# Altium schematic symbol library SparkFun-Resistors.SCHLIB: 155 symbols
Pins are listed as number, name and electrical type; pins without a type are passive.

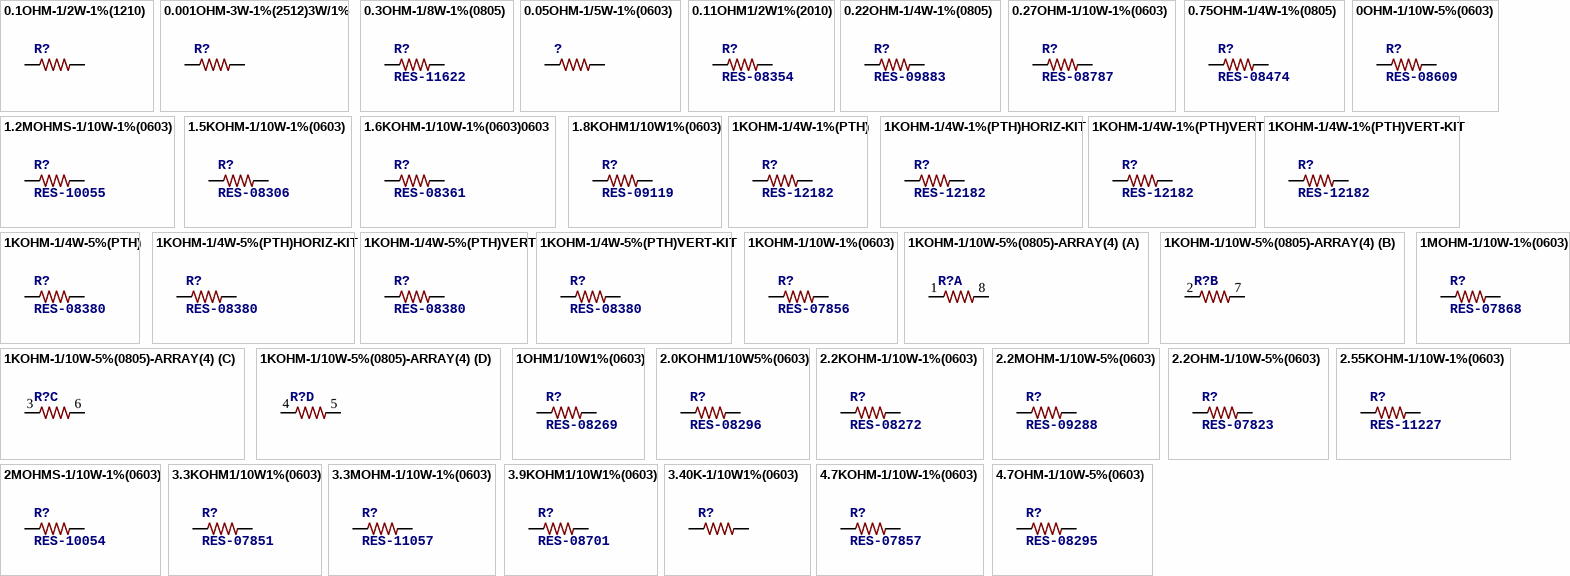
[diagram p0: symbols 0.1OHM-1/2W-1%(1210) to 4.7OHM-1/10W-5%(0603)]

## 0.1OHM-1/2W-1%(1210)
designator R?
PROD_ID: RES-12374
footprint 1210
pins: 1, 2

## 0.001OHM-3W-1%(2512)3W/1%
designator R?
PROD_ID: RES-12449
footprint 2512
pins: 1, 2

## 0.3OHM-1/8W-1%(0805)
designator R?, comment RES-11622
PROD_ID: RES-11622
footprint 0805
pins: 1, 2

## 0.05OHM-1/5W-1%(0603)
designator ?
PROD_ID: RES-12535
footprint 0603
pins: 1, 2

## 0.11OHM1/2W1%(2010)
designator R?, comment RES-08354
PROD_ID: RES-08354
footprint R2010
pins: 1, 2

## 0.22OHM-1/4W-1%(0805)
designator R?, comment RES-09883
PROD_ID: RES-09883
footprint 0805
pins: 1, 2

## 0.27OHM-1/10W-1%(0603)
designator R?, comment RES-08787
PROD_ID: RES-08787
footprint 0603-RES
pins: 1, 2

## 0.75OHM-1/4W-1%(0805)
designator R?, comment RES-08474
PROD_ID: RES-08474
footprint 0805
pins: 1, 2

## 0OHM-1/10W-5%(0603)
designator R?, comment RES-08609
PROD_ID: RES-08609
footprint 0603
pins: 1, 2

## 1.2MOHMS-1/10W-1%(0603)
designator R?, comment RES-10055
PROD_ID: RES-10055
footprint 0603-RES
pins: 1, 2

## 1.5KOHM-1/10W-1%(0603)
designator R?, comment RES-08306
PROD_ID: RES-08306
footprint 0603
pins: 1, 2

## 1.6KOHM-1/10W-1%(0603)0603
designator R?, comment RES-08361
PROD_ID: RES-08361
footprint 0603-RES
pins: 1, 2

## 1.8KOHM1/10W1%(0603)
designator R?, comment RES-09119
PROD_ID: RES-09119
footprint 0603-RES
pins: 1, 2

## 1KOHM-1/4W-1%(PTH)
designator R?, comment RES-12182
PROD_ID: RES-12182
footprint AXIAL-0.3
pins: P$1 1, P$2 2

## 1KOHM-1/4W-1%(PTH)HORIZ-KIT
designator R?, comment RES-12182
PROD_ID: RES-12182
footprint AXIAL-0.3EZ
pins: P$1 1, P$2 2

## 1KOHM-1/4W-1%(PTH)VERT
designator R?, comment RES-12182
PROD_ID: RES-12182
footprint AXIAL-0.1
pins: P$1 1, P$2 2

## 1KOHM-1/4W-1%(PTH)VERT-KIT
designator R?, comment RES-12182
PROD_ID: RES-12182
footprint AXIAL-0.1EZ
pins: P$1 1, P$2 2

## 1KOHM-1/4W-5%(PTH)
designator R?, comment RES-08380
PROD_ID: RES-08380
footprint AXIAL-0.3
pins: P$1 1, P$2 2

## 1KOHM-1/4W-5%(PTH)HORIZ-KIT
designator R?, comment RES-08380
PROD_ID: RES-08380
footprint AXIAL-0.3EZ
pins: P$1 1, P$2 2

## 1KOHM-1/4W-5%(PTH)VERT
designator R?, comment RES-08380
PROD_ID: RES-08380
footprint AXIAL-0.1
pins: P$1 1, P$2 2

## 1KOHM-1/4W-5%(PTH)VERT-KIT
designator R?, comment RES-08380
PROD_ID: RES-08380
footprint AXIAL-0.1EZ
pins: P$1 1, P$2 2

## 1KOHM-1/10W-1%(0603)
designator R?, comment RES-07856
PROD_ID: RES-07856
footprint 0603-RES
pins: 1, 2

## 1KOHM-1/10W-5%(0805)-ARRAY(4)
designator R?
PROD_ID: RES-13020
footprint 0805-ARV
part A pins: 1, 8 2
part B pins: 2 1, 7 2
part C pins: 3 1, 6 2
part D pins: 4 1, 5 2

## 1MOHM-1/10W-1%(0603)
designator R?, comment RES-07868
PROD_ID: RES-07868
footprint 0603-RES
pins: 1, 2

## 1OHM1/10W1%(0603)
designator R?, comment RES-08269
PROD_ID: RES-08269
footprint 0603-RES
pins: 1, 2

## 2.0KOHM1/10W5%(0603)
designator R?, comment RES-08296
PROD_ID: RES-08296
footprint 0603-RES
pins: 1, 2

## 2.2KOHM-1/10W-1%(0603)
designator R?, comment RES-08272
PROD_ID: RES-08272
footprint 0603-RES
pins: 1, 2

## 2.2MOHM-1/10W-5%(0603)
designator R?, comment RES-09288
PROD_ID: RES-09288
footprint 0603-RES
pins: 1, 2

## 2.2OHM-1/10W-5%(0603)
designator R?, comment RES-07823
PROD_ID: RES-07823
footprint 0603-RES
pins: 1, 2

## 2.55KOHM-1/10W-1%(0603)
designator R?, comment RES-11227
PROD_ID: RES-11227
footprint 0603-RES
pins: 1, 2

## 2MOHMS-1/10W-1%(0603)
designator R?, comment RES-10054
PROD_ID: RES-10054
footprint 0603-RES
pins: 1, 2

## 3.3KOHM1/10W1%(0603)
designator R?, comment RES-07851
PROD_ID: RES-07851
footprint 0603-RES
pins: 1, 2

## 3.3MOHM-1/10W-1%(0603)
designator R?, comment RES-11057
PROD_ID: RES-11057
footprint 0603-RES
pins: 1, 2

## 3.9KOHM1/10W1%(0603)
designator R?, comment RES-08701
PROD_ID: RES-08701
footprint 0603
pins: 1, 2

## 3.40K-1/10W1%(0603)
designator R?
PROD_ID: RES-12383
footprint 0603-RES
pins: 1, 2

## 4.7KOHM-1/10W-1%(0603)
designator R?, comment RES-07857
PROD_ID: RES-07857
footprint 0603-RES
pins: 1, 2

## 4.7OHM-1/10W-5%(0603)
designator R?, comment RES-08295
PROD_ID: RES-08295
footprint 0603-RES
pins: 1, 2

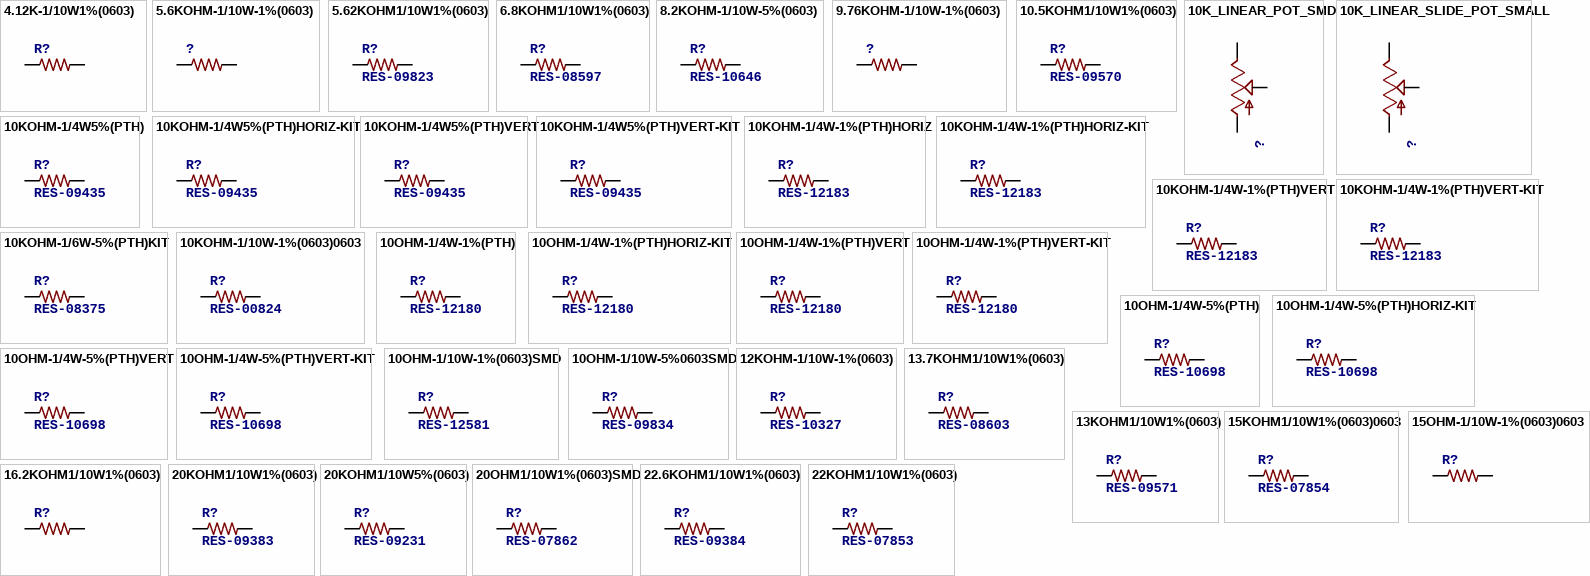
[diagram p1: symbols 4.12K-1/10W1%(0603) to 22KOHM1/10W1%(0603)]

## 4.12K-1/10W1%(0603)
designator R?
PROD_ID: RES-12384
footprint 0603-RES
pins: 1, 2

## 5.6KOHM-1/10W-1%(0603)
designator ?
PROD_ID: RES-12378
footprint 0603
pins: 1, 2

## 5.62KOHM1/10W1%(0603)
designator R?, comment RES-09823
PROD_ID: RES-09823
footprint 0603-RES
pins: 1, 2

## 6.8KOHM1/10W1%(0603)
designator R?, comment RES-08597
PROD_ID: RES-08597
footprint 0603-RES
pins: 1, 2

## 8.2KOHM-1/10W-5%(0603)
designator R?, comment RES-10646
PROD_ID: RES-10646
footprint 0603-RES
pins: 1, 2

## 9.76KOHM-1/10W-1%(0603)
designator ?
PROD_ID: RES-12534
footprint 0603
pins: 1, 2

## 10.5KOHM1/10W1%(0603)
designator R?, comment RES-09570
PROD_ID: RES-09570
footprint 0603
pins: 1, 2

## 10K_LINEAR_POT_SMD
designator ?
PROD_ID: RES-12428
footprint TC33X
pins: 1 A, 2 S, 3 E

## 10K_LINEAR_SLIDE_POT_SMALL
designator ?
PROD_ID: RES-11924
footprint C2031N-1A2-B10K-GP
pins: 1 S, 2 A, 3 E

## 10KOHM-1/4W5%(PTH)
designator R?, comment RES-09435
PROD_ID: RES-9435
footprint AXIAL-0.3
pins: P$1 1, P$2 2

## 10KOHM-1/4W5%(PTH)HORIZ-KIT
designator R?, comment RES-09435
PROD_ID: RES-9435
footprint AXIAL-0.3EZ
pins: P$1 1, P$2 2

## 10KOHM-1/4W5%(PTH)VERT
designator R?, comment RES-09435
PROD_ID: RES-9435
footprint AXIAL-0.1
pins: P$1 1, P$2 2

## 10KOHM-1/4W5%(PTH)VERT-KIT
designator R?, comment RES-09435
PROD_ID: RES-9435
footprint AXIAL-0.1EZ
pins: P$1 1, P$2 2

## 10KOHM-1/4W-1%(PTH)HORIZ
designator R?, comment RES-12183
PROD_ID: RES-12183
footprint AXIAL-0.3
pins: P$1 1, P$2 2

## 10KOHM-1/4W-1%(PTH)HORIZ-KIT
designator R?, comment RES-12183
PROD_ID: RES-12183
footprint AXIAL-0.3EZ
pins: P$1 1, P$2 2

## 10KOHM-1/4W-1%(PTH)VERT
designator R?, comment RES-12183
PROD_ID: RES-12183
footprint AXIAL-0.1
pins: P$1 1, P$2 2

## 10KOHM-1/4W-1%(PTH)VERT-KIT
designator R?, comment RES-12183
PROD_ID: RES-12183
footprint AXIAL-0.1EZ
pins: P$1 1, P$2 2

## 10KOHM-1/6W-5%(PTH)KIT
designator R?, comment RES-08375
PROD_ID: RES-08375
footprint AXIAL-0.3-KIT
pins: P$1 1, P$2 2

## 10KOHM-1/10W-1%(0603)0603
designator R?, comment RES-00824
PROD_ID: RES-00824
footprint 0603-RES
pins: 1, 2

## 10OHM-1/4W-1%(PTH)
designator R?, comment RES-12180
PROD_ID: RES-12180
footprint AXIAL-0.3
pins: P$1 1, P$2 2

## 10OHM-1/4W-1%(PTH)HORIZ-KIT
designator R?, comment RES-12180
PROD_ID: RES-12180
footprint AXIAL-0.3EZ
pins: P$1 1, P$2 2

## 10OHM-1/4W-1%(PTH)VERT
designator R?, comment RES-12180
PROD_ID: RES-12180
footprint AXIAL-0.1
pins: P$1 1, P$2 2

## 10OHM-1/4W-1%(PTH)VERT-KIT
designator R?, comment RES-12180
PROD_ID: RES-12180
footprint AXIAL-0.1EZ
pins: P$1 1, P$2 2

## 10OHM-1/4W-5%(PTH)
designator R?, comment RES-10698
PROD_ID: RES-10698
footprint AXIAL-0.3
pins: P$1 1, P$2 2

## 10OHM-1/4W-5%(PTH)HORIZ-KIT
designator R?, comment RES-10698
PROD_ID: RES-10698
footprint AXIAL-0.3EZ
pins: P$1 1, P$2 2

## 10OHM-1/4W-5%(PTH)VERT
designator R?, comment RES-10698
PROD_ID: RES-10698
footprint AXIAL-0.1
pins: P$1 1, P$2 2

## 10OHM-1/4W-5%(PTH)VERT-KIT
designator R?, comment RES-10698
PROD_ID: RES-10698
footprint AXIAL-0.1EZ
pins: P$1 1, P$2 2

## 10OHM-1/10W-1%(0603)SMD
designator R?, comment RES-12581
PROD_ID: RES-12581
footprint 0603-RES
pins: 1, 2

## 10OHM-1/10W-5%0603SMD
designator R?, comment RES-09834
PROD_ID: RES-09834
footprint 0603-RES
pins: 1, 2

## 12KOHM-1/10W-1%(0603)
designator R?, comment RES-10327
PROD_ID: RES-10327
footprint 0603-RES
pins: 1, 2

## 13.7KOHM1/10W1%(0603)
designator R?, comment RES-08603
PROD_ID: RES-08603
footprint 0603-RES
pins: 1, 2

## 13KOHM1/10W1%(0603)
designator R?, comment RES-09571
PROD_ID: RES-09571
footprint 0603
pins: 1, 2

## 15KOHM1/10W1%(0603)0603
designator R?, comment RES-07854
PROD_ID: RES-07854
footprint 0603-RES
pins: 1, 2

## 15OHM-1/10W-1%(0603)0603
designator R?
PROD_ID: RES-12570
footprint 0603-RES
pins: 1, 2

## 16.2KOHM1/10W1%(0603)
designator R?
PROD_ID: RES-12187
footprint 0603-RES
pins: 1, 2

## 20KOHM1/10W1%(0603)
designator R?, comment RES-09383
PROD_ID: RES-09383
footprint 0603-RES
pins: 1, 2

## 20KOHM1/10W5%(0603)
designator R?, comment RES-09231
PROD_ID: RES-09231
footprint 0603-RES
pins: 1, 2

## 20OHM1/10W1%(0603)SMD
designator R?, comment RES-07862
PROD_ID: RES-07862
footprint 0603-RES
pins: 1, 2

## 22.6KOHM1/10W1%(0603)
designator R?, comment RES-09384
PROD_ID: RES-09384
footprint 0603-RES
pins: 1, 2

## 22KOHM1/10W1%(0603)
designator R?, comment RES-07853
PROD_ID: RES-07853
footprint 0603-RES
pins: 1, 2

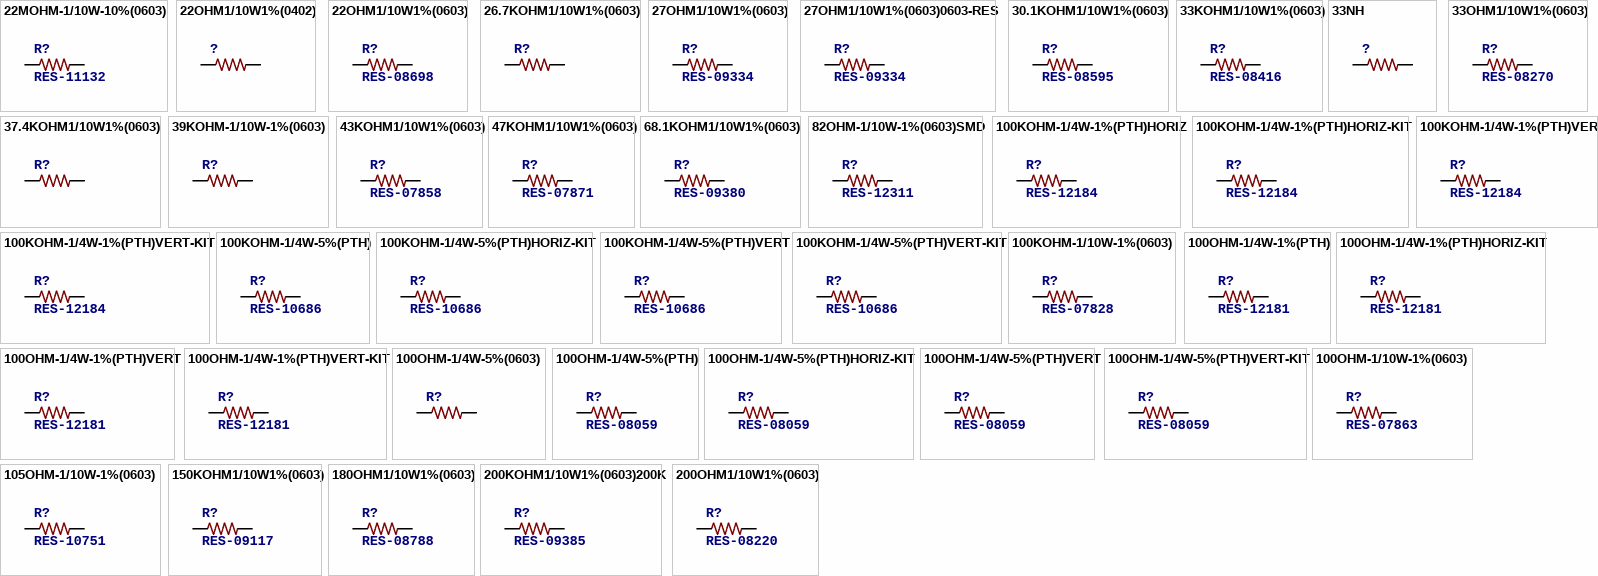
[diagram p2: symbols 22MOHM-1/10W-10%(0603) to 200OHM1/10W1%(0603)]

## 22MOHM-1/10W-10%(0603)
designator R?, comment RES-11132
PROD_ID: RES-11132
footprint 0603-RES
pins: 1, 2

## 22OHM1/10W1%(0402)
designator ?
PROD_ID: RES-12427
footprint 0402-RES
pins: 1, 2

## 22OHM1/10W1%(0603)
designator R?, comment RES-08698
PROD_ID: RES-08698
footprint 0603-RES
pins: 1, 2

## 26.7KOHM1/10W1%(0603)
designator R?
PROD_ID: RES-12186
footprint 0603-RES
pins: 1, 2

## 27OHM1/10W1%(0603)
designator R?, comment RES-09334
PROD_ID: RES-09334
footprint 0603
pins: 1, 2

## 27OHM1/10W1%(0603)0603-RES
designator R?, comment RES-09334
PROD_ID: RES-09334
footprint 0603-RES
pins: 1, 2

## 30.1KOHM1/10W1%(0603)
designator R?, comment RES-08595
PROD_ID: RES-08595
footprint 0603-RES
pins: 1, 2

## 33KOHM1/10W1%(0603)
designator R?, comment RES-08416
PROD_ID: RES-08416
footprint 0603-RES
pins: 1, 2

## 33NH
designator ?
PROD_ID: NDUC-07874
footprint 0603-RES
pins: 1, 2

## 33OHM1/10W1%(0603)
designator R?, comment RES-08270
PROD_ID: RES-08270
footprint 0603-RES
pins: 1, 2

## 37.4KOHM1/10W1%(0603)
designator R?
PROD_ID: RES-12188
footprint 0603-RES
pins: 1, 2

## 39KOHM-1/10W-1%(0603)
designator R?
PROD_ID: RES-12377
footprint 0603
pins: 1, 2

## 43KOHM1/10W1%(0603)
designator R?, comment RES-07858
PROD_ID: RES-07858
footprint 0603-RES
pins: 1, 2

## 47KOHM1/10W1%(0603)
designator R?, comment RES-07871
PROD_ID: RES-07871
footprint 0603-RES
pins: 1, 2

## 68.1KOHM1/10W1%(0603)
designator R?, comment RES-09380
PROD_ID: RES-09380
footprint 0603-RES
pins: 1, 2

## 82OHM-1/10W-1%(0603)SMD
designator R?, comment RES-12311
PROD_ID: RES-12311
footprint 0603-RES
pins: 1, 2

## 100KOHM-1/4W-1%(PTH)HORIZ
designator R?, comment RES-12184
PROD_ID: RES-12184
footprint AXIAL-0.3
pins: P$1 1, P$2 2

## 100KOHM-1/4W-1%(PTH)HORIZ-KIT
designator R?, comment RES-12184
PROD_ID: RES-12184
footprint AXIAL-0.3EZ
pins: P$1 1, P$2 2

## 100KOHM-1/4W-1%(PTH)VERT
designator R?, comment RES-12184
PROD_ID: RES-12184
footprint AXIAL-0.1
pins: P$1 1, P$2 2

## 100KOHM-1/4W-1%(PTH)VERT-KIT
designator R?, comment RES-12184
PROD_ID: RES-12184
footprint AXIAL-0.1EZ
pins: P$1 1, P$2 2

## 100KOHM-1/4W-5%(PTH)
designator R?, comment RES-10686
PROD_ID: RES-10686
footprint AXIAL-0.3
pins: P$1 1, P$2 2

## 100KOHM-1/4W-5%(PTH)HORIZ-KIT
designator R?, comment RES-10686
PROD_ID: RES-10686
footprint AXIAL-0.3EZ
pins: P$1 1, P$2 2

## 100KOHM-1/4W-5%(PTH)VERT
designator R?, comment RES-10686
PROD_ID: RES-10686
footprint AXIAL-0.1
pins: P$1 1, P$2 2

## 100KOHM-1/4W-5%(PTH)VERT-KIT
designator R?, comment RES-10686
PROD_ID: RES-10686
footprint AXIAL-0.1EZ
pins: P$1 1, P$2 2

## 100KOHM-1/10W-1%(0603)
designator R?, comment RES-07828
PROD_ID: RES-07828
footprint 0603-RES
pins: 1, 2

## 100OHM-1/4W-1%(PTH)
designator R?, comment RES-12181
PROD_ID: RES-12181
footprint AXIAL-0.3
pins: P$1 1, P$2 2

## 100OHM-1/4W-1%(PTH)HORIZ-KIT
designator R?, comment RES-12181
PROD_ID: RES-12181
footprint AXIAL-0.3EZ
pins: P$1 1, P$2 2

## 100OHM-1/4W-1%(PTH)VERT
designator R?, comment RES-12181
PROD_ID: RES-12181
footprint AXIAL-0.1
pins: P$1 1, P$2 2

## 100OHM-1/4W-1%(PTH)VERT-KIT
designator R?, comment RES-12181
PROD_ID: RES-12181
footprint AXIAL-0.1EZ
pins: P$1 1, P$2 2

## 100OHM-1/4W-5%(0603)
designator R?
PROD_ID: RES-12438
footprint 0603-RES
pins: 1, 2

## 100OHM-1/4W-5%(PTH)
designator R?, comment RES-08059
PROD_ID: RES-08059
footprint AXIAL-0.3
pins: P$1 1, P$2 2

## 100OHM-1/4W-5%(PTH)HORIZ-KIT
designator R?, comment RES-08059
PROD_ID: RES-08059
footprint AXIAL-0.3EZ
pins: P$1 1, P$2 2

## 100OHM-1/4W-5%(PTH)VERT
designator R?, comment RES-08059
PROD_ID: RES-08059
footprint AXIAL-0.1
pins: P$1 1, P$2 2

## 100OHM-1/4W-5%(PTH)VERT-KIT
designator R?, comment RES-08059
PROD_ID: RES-08059
footprint AXIAL-0.1EZ
pins: P$1 1, P$2 2

## 100OHM-1/10W-1%(0603)
designator R?, comment RES-07863
PROD_ID: RES-07863
footprint 0603-RES
pins: 1, 2

## 105OHM-1/10W-1%(0603)
designator R?, comment RES-10751
PROD_ID: RES-10751
footprint 0603-RES
pins: 1, 2

## 150KOHM1/10W1%(0603)
designator R?, comment RES-09117
PROD_ID: RES-09117
footprint 0603-RES
pins: 1, 2

## 180OHM1/10W1%(0603)
designator R?, comment RES-08788
PROD_ID: RES-08788
footprint 0603-RES
pins: 1, 2

## 200KOHM1/10W1%(0603)200K
designator R?, comment RES-09385
PROD_ID: RES-09385
footprint 0603-RES
pins: 1, 2

## 200OHM1/10W1%(0603)
designator R?, comment RES-08220
PROD_ID: RES-08220
footprint 0603-RES
pins: 1, 2

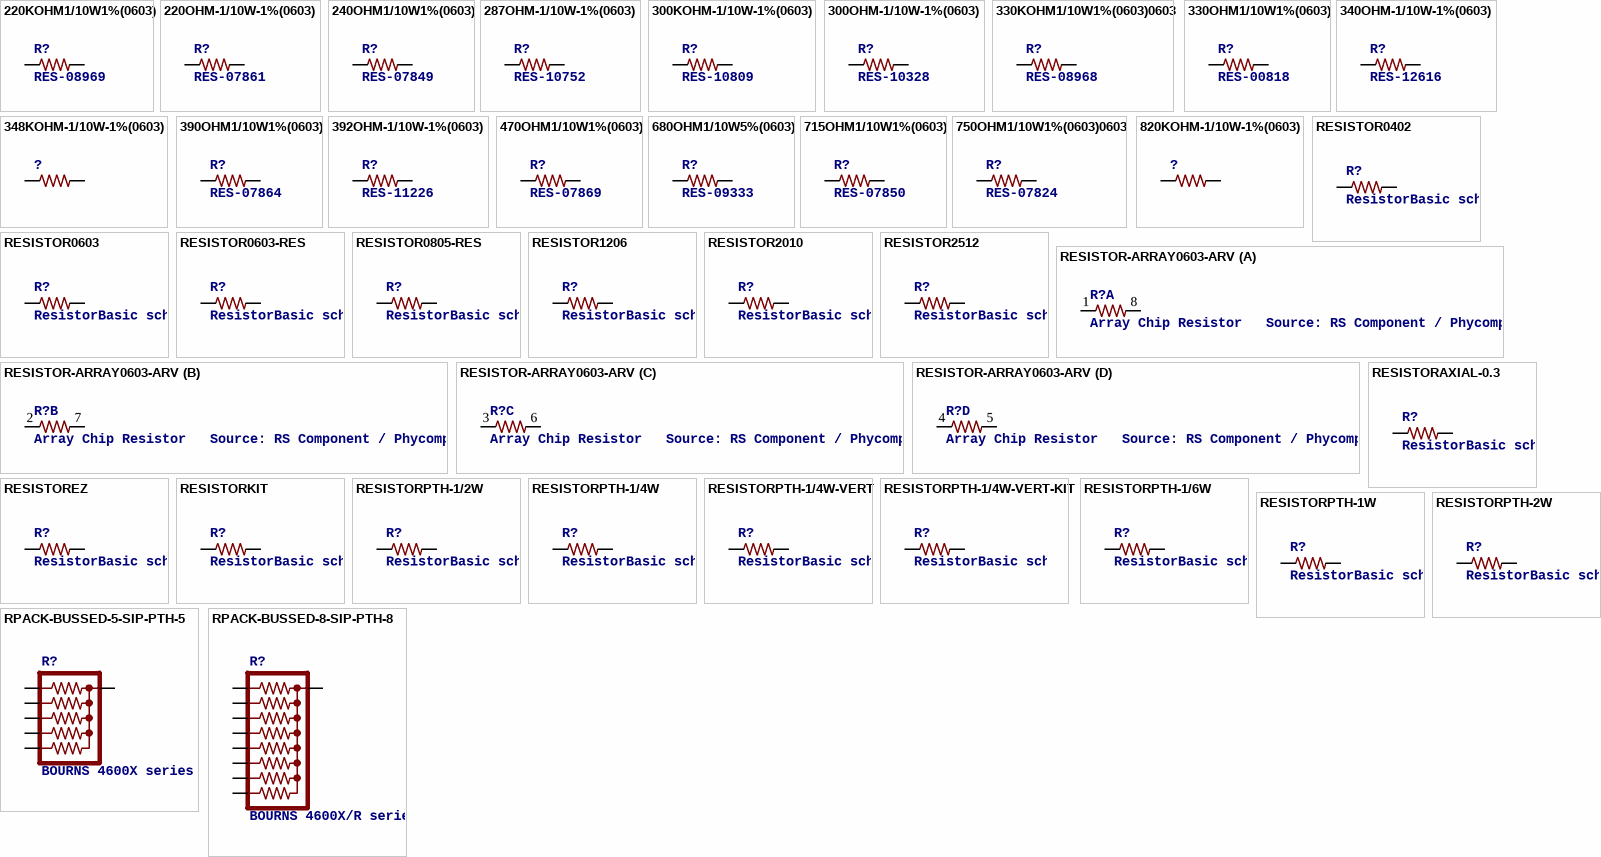
[diagram p3: symbols 220KOHM1/10W1%(0603) to RPACK-BUSSED-8-SIP-PTH-8]

## 220KOHM1/10W1%(0603)
designator R?, comment RES-08969
PROD_ID: RES-08969
footprint 0603-RES
pins: 1, 2

## 220OHM-1/10W-1%(0603)
designator R?, comment RES-07861
PROD_ID: RES-07861
footprint 0603-RES
pins: 1, 2

## 240OHM1/10W1%(0603)
designator R?, comment RES-07849
PROD_ID: RES-07849
footprint 0603-RES
pins: 1, 2

## 287OHM-1/10W-1%(0603)
designator R?, comment RES-10752
PROD_ID: RES-10752
footprint 0603-RES
pins: 1, 2

## 300KOHM-1/10W-1%(0603)
designator R?, comment RES-10809
PROD_ID: RES-10809
footprint 0603-RES
pins: 1, 2

## 300OHM-1/10W-1%(0603)
designator R?, comment RES-10328
PROD_ID: RES_10328
footprint 0603-RES
pins: 1, 2

## 330KOHM1/10W1%(0603)0603
designator R?, comment RES-08968
PROD_ID: RES-08968
footprint 0603-RES
pins: 1, 2

## 330OHM1/10W1%(0603)
designator R?, comment RES-00818
PROD_ID: RES-00818
footprint 0603-RES
pins: 1, 2

## 340OHM-1/10W-1%(0603)
designator R?, comment RES-12616
PROD_ID: RES-12616
footprint 0603-RES
pins: 1, 2

## 348KOHM-1/10W-1%(0603)
designator ?
PROD_ID: RES-12533
footprint 0603
pins: 1, 2

## 390OHM1/10W1%(0603)
designator R?, comment RES-07864
PROD_ID: RES-07864
footprint 0603-RES
pins: 1, 2

## 392OHM-1/10W-1%(0603)
designator R?, comment RES-11226
PROD_ID: RES-11226
footprint 0603-RES
pins: 1, 2

## 470OHM1/10W1%(0603)
designator R?, comment RES-07869
PROD_ID: RES-07869
footprint 0603-RES
pins: 1, 2

## 680OHM1/10W5%(0603)
designator R?, comment RES-09333
PROD_ID: RES-09333
footprint 0603-RES
pins: 1, 2

## 715OHM1/10W1%(0603)
designator R?, comment RES-07850
PROD_ID: RES-07850
footprint 0603-RES
pins: 1, 2

## 750OHM1/10W1%(0603)0603
designator R?, comment RES-07824
PROD_ID: RES-07824
footprint 0603-RES
pins: 1, 2

## 820KOHM-1/10W-1%(0603)
designator ?
PROD_ID: RES-13247
footprint 0603-RES
pins: 1, 2

## RESISTOR0402
designator R?, comment ResistorBasic schematic elements and footprints for 0603, 1206, and PTH resistors.
footprint 0402-RES
pins: 1, 2

## RESISTOR0603
designator R?, comment ResistorBasic schematic elements and footprints for 0603, 1206, and PTH resistors.
footprint 0603-RES
pins: 1, 2

## RESISTOR0603-RES
designator R?, comment ResistorBasic schematic elements and footprints for 0603, 1206, and PTH resistors.
footprint 0603-RES
pins: 1, 2

## RESISTOR0805-RES
designator R?, comment ResistorBasic schematic elements and footprints for 0603, 1206, and PTH resistors.
footprint 0805
pins: 1, 2

## RESISTOR1206
designator R?, comment ResistorBasic schematic elements and footprints for 0603, 1206, and PTH resistors.
footprint 1206
pins: 1, 2

## RESISTOR2010
designator R?, comment ResistorBasic schematic elements and footprints for 0603, 1206, and PTH resistors.
footprint R2010
pins: 1, 2

## RESISTOR2512
designator R?, comment ResistorBasic schematic elements and footprints for 0603, 1206, and PTH resistors.
footprint R2512
pins: 1, 2

## RESISTOR-ARRAY0603-ARV
designator R?, comment Array Chip Resistor   Source: RS Component / Phycomp
footprint 0603-ARV
part A pins: 1, 8 2
part B pins: 2 1, 7 2
part C pins: 3 1, 6 2
part D pins: 4 1, 5 2

## RESISTORAXIAL-0.3
designator R?, comment ResistorBasic schematic elements and footprints for 0603, 1206, and PTH resistors.
footprint AXIAL-0.3
pins: P$1 1, P$2 2

## RESISTOREZ
designator R?, comment ResistorBasic schematic elements and footprints for 0603, 1206, and PTH resistors.
footprint AXIAL-0.3EZ
pins: P$1 1, P$2 2

## RESISTORKIT
designator R?, comment ResistorBasic schematic elements and footprints for 0603, 1206, and PTH resistors.
footprint AXIAL-0.3-KIT
pins: P$1 1, P$2 2

## RESISTORPTH-1/2W
designator R?, comment ResistorBasic schematic elements and footprints for 0603, 1206, and PTH resistors.
footprint AXIAL-0.5
pins: P$1 1, P$2 2

## RESISTORPTH-1/4W
designator R?, comment ResistorBasic schematic elements and footprints for 0603, 1206, and PTH resistors.
footprint AXIAL-0.4
pins: P$1 1, P$2 2

## RESISTORPTH-1/4W-VERT
designator R?, comment ResistorBasic schematic elements and footprints for 0603, 1206, and PTH resistors.
footprint AXIAL-0.1
pins: P$1 1, P$2 2

## RESISTORPTH-1/4W-VERT-KIT
designator R?, comment ResistorBasic schematic elements and footprints for 0603, 1206, and PTH resistors.
footprint AXIAL-0.1EZ
pins: P$1 1, P$2 2

## RESISTORPTH-1/6W
designator R?, comment ResistorBasic schematic elements and footprints for 0603, 1206, and PTH resistors.
footprint 1/6W-RES
pins: 1, 2

## RESISTORPTH-1W
designator R?, comment ResistorBasic schematic elements and footprints for 0603, 1206, and PTH resistors.
footprint AXIAL-0.6
pins: P$1 1, P$2 2

## RESISTORPTH-2W
designator R?, comment ResistorBasic schematic elements and footprints for 0603, 1206, and PTH resistors.
footprint AXIAL-0.8
pins: P$1 1, P$2 2

## RPACK-BUSSED-5-SIP-PTH-5
designator R?, comment BOURNS 4600X series thick-film SIP resistor packs  Five resistors bussed to a single pin (denoted by dot). 0.2W / resistor datasheet  SFE parts COM-10855 (330), COM-10856 (10K)
footprint RPACK-SIP-PTH-5
pins: P$1 1, P$2 2, P$3 3, P$4 4, P$5 5, P$6 6

## RPACK-BUSSED-8-SIP-PTH-8
designator R?, comment BOURNS 4600X/R series thick-film SIP resistor packs  Height resistors bussed to a single pin (denoted by dot). datasheet  SIMILAR TO: SFE parts COM-10855 (330), COM-10856 (10K)
footprint RPACK-SIP-PTH-8
pins: P$1 1, P$2 2, P$3 3, P$4 4, P$5 5, P$6 6, P$7 7, P$8 8, P$9 9

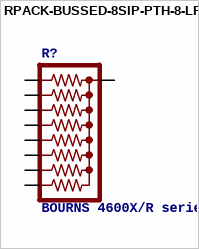
[diagram p4: symbol RPACK-BUSSED-8SIP-PTH-8-LP]

## RPACK-BUSSED-8SIP-PTH-8-LP
designator R?, comment BOURNS 4600X/R series thick-film SIP resistor packs  Height resistors bussed to a single pin (denoted by dot). datasheet  SIMILAR TO: SFE parts COM-10855 (330), COM-10856 (10K)
footprint RPACK-SIP-PTH-8-LP
pins: P$1 1, P$2 2, P$3 3, P$4 4, P$5 5, P$6 6, P$7 7, P$8 8, P$9 9